# Altium footprint library PCB - LEADED - SOIC - ANALOG DEV SOIC-16 RI-16-1.PCBLIB: 1 footprints
Each footprint in its own frame and in the unit in brackets; x right, y up, seen from the top. Pads: shape width x height; smd on the part's side, far side on the other; paste and mask are expansions set on the pad; w line width, h text height; cw(c..) or ccw(c..) is an arc to the next point about the centre after c.
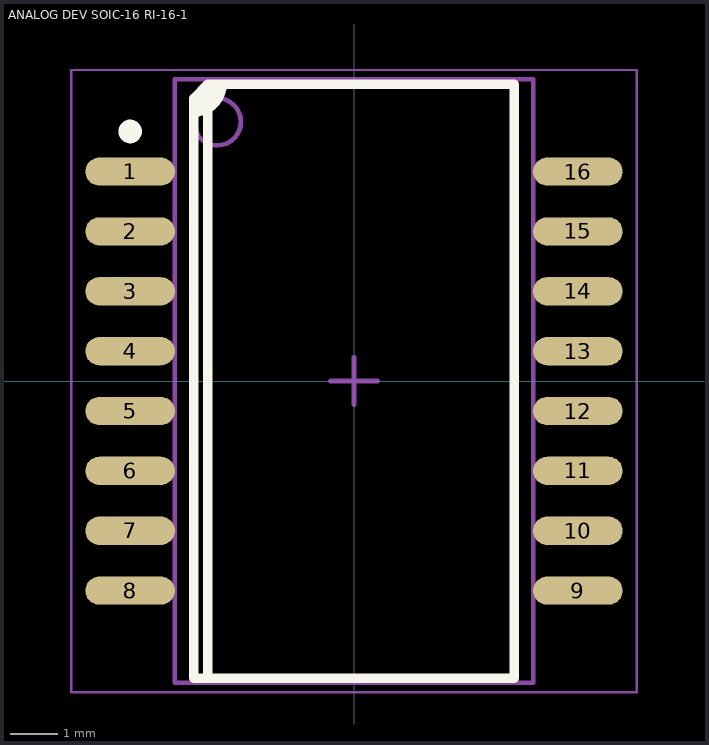
[diagram p0: the footprint, top view; thin cyan lines are the x and y axes]

## ANALOG DEV SOIC-16 RI-16-1 [mm] "SOIC, 16-Leads, Body 12.80x7.50mm, Pitch 1.27mm, IPC Medium Density"
height 2.65
pads (16):
  oval 1.9x0.6 smd: 1(-4.75,4.445) 2(-4.75,3.175) 3(-4.75,1.905) 4(-4.75,0.635) 5(-4.75,-0.635) 6(-4.75,-1.905) 7(-4.75,-3.175) 8(-4.75,-4.445) 9(4.75,-4.445) 10(4.75,-3.175) 11(4.75,-1.905) 12(4.75,-0.635) 13(4.75,0.635) 14(4.75,1.905) 15(4.75,3.175) 16(4.75,4.445)
Top Overlay:
  circle w0.25: c-4.75,5.295 r0.125
  region: -3.4,5.7 -3.281,5.7 -3.06,5.791 -2.891,5.96 -2.8,6.181 -2.8,6.3 -3.1,6.3 -3.4,6
  lines w0.2: -3.398,5.7 ccw(c-3.4,6.3) -2.8,6.3 ; -3.1,-6.3 -3.1,5.751 ; -3.4,6 -3.4,-6.3 3.4,-6.3 3.4,6.3 -3.1,6.3 ; -3.4,6 -3.1,6.3 ; -3.4,6 -3.1,6.3
Mechanical 13:
  circle w0.1: c-2.9,5.5 r0.5
  lines w0.1: -3.8,-6.4 3.8,-6.4 3.8,6.4 -3.8,6.4 -3.8,-6.4
Mechanical 15:
  lines w0.05: -6,-6.6 6,-6.6 6,6.6 -6,6.6 -6,-6.6
  lines w0.1: -0.5,0 0.5,0 ; 0,-0.5 0,0.5
3D body "Analog Devices SOIC-16 RI.step": height 2.65, standoff 0, extent -5.163,-6.4 5.162,6.4